# Altium schematic symbol library CRYSTAL 32.786kHz.SchLib: 1 symbol
Pins are listed as number, name and electrical type; pins without a type are passive.

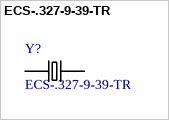
[diagram p0: symbol ECS-.327-9-39-TR]

## ECS-.327-9-39-TR
designator Y?
32.768kHz 20ppm Crystal 9pF 70 kOhm -40C ~ 85C Surface Mount 2-SMD, No Lead 4.9 x 1.8; MF: ECS International; Digi-Key_Purchase_URL: https://www.digikey.pt/product-detail/en/ecs-inc/ECS-.327-9-39-TR/XC2299CT-ND/6821667?utm_source=snapeda&utm_medium=aggregator&utm_campaign=symbol; Digi-Key_Part_Number: XC2299CT-ND; SnapEDA_Link: https://www.snapeda.com/parts/ECS-.327-9-39-TR/ECS%20Inc./view-part/?ref=snap; Package: SMD-2 ECS International; MP: ECS-.327-9-39-TR; Value: *
footprint XTAL_ECS-.327-9-39-TR
pins: 1, 2